# EAGLE library part FTSH-105-XX-X-DV-K (library J-Samtec-FTSH-105-XXX-DV-K-ARM-SWD)
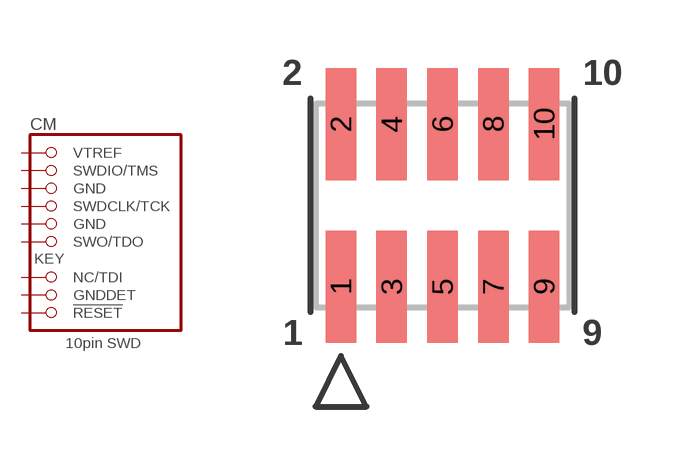
[diagram p0: symbol with the pads of CON10_2X5_DUK_FTSH; footprint CON10_2X5_DUK_FTSH]

Designator prefix CM

## FTSH-105-XX-X-DV-K  [CON10_2X5_DUK_FTSH]
1  VTREF  pas
2  SWDIO/TMS  pas
3  GND  pas
4  SWDCLK/TCK  pas
5  GND  pas
6  SWO/TDO  pas
8  NC/TDI  pas
9  GNDDET  pas
10  !RESET  pas

## Footprint CON10_2X5_DUK_FTSH (pad centres in mm)
smd 0.762 x 2.794: 1 -2.54,-2.032; 2 -2.54,2.032; 3 -1.27,-2.032; 4 -1.27,2.032; 5 0,-2.032; 6 0,2.032; 7 1.27,-2.032; 8 1.27,2.032; 9 2.54,-2.032; 10 2.54,2.032